# Altium footprint library DF40HC(4.0)-50DS.PcbLib: 1 footprints
Each footprint in its own frame and in the unit in brackets; x right, y up, seen from the top. Pads: shape width x height; smd on the part's side, far side on the other; paste and mask are expansions set on the pad; w line width, h text height; cw(c..) or ccw(c..) is an arc to the next point about the centre after c.
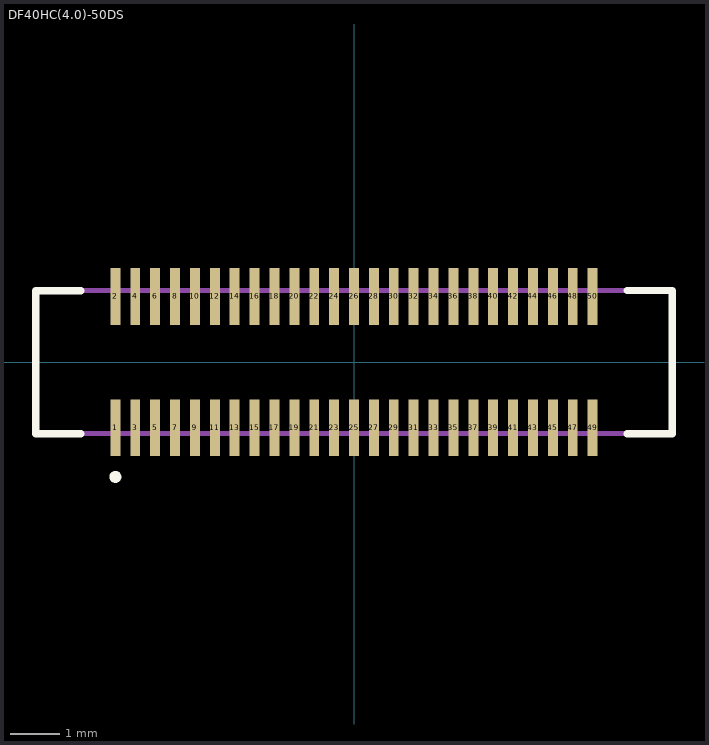
[diagram p0: the footprint, top view; thin cyan lines are the x and y axes]

## DF40HC(4.0)-50DS [mm]
pads (50):
  rect 0.2x1.14 smd: 1(-4.8,-1.32) 2(-4.8,1.32) 3(-4.4,-1.32) 4(-4.4,1.32) 5(-4,-1.32) 6(-4,1.32) 7(-3.6,-1.32) 8(-3.6,1.32) 9(-3.2,-1.32) 10(-3.2,1.32) 11(-2.8,-1.32) 12(-2.8,1.32) 13(-2.4,-1.32) 14(-2.4,1.32) 15(-2,-1.32) 16(-2,1.32) 17(-1.6,-1.32) 18(-1.6,1.32) 19(-1.2,-1.32) 20(-1.2,1.32) 21(-0.8,-1.32) 22(-0.8,1.32) 23(-0.4,-1.32) 24(-0.4,1.32) 25(0,-1.32) 26(0,1.32) 27(0.4,-1.32) 28(0.4,1.32) 29(0.8,-1.32) 30(0.8,1.32) 31(1.2,-1.32) 32(1.2,1.32) 33(1.6,-1.32) 34(1.6,1.32) 35(2,-1.32) 36(2,1.32) 37(2.4,-1.32) 38(2.4,1.32) 39(2.8,-1.32) 40(2.8,1.32) 41(3.2,-1.32) 42(3.2,1.32) 43(3.6,-1.32) 44(3.6,1.32) 45(4,-1.32) 46(4,1.32) 47(4.4,-1.32) 48(4.4,1.32) 49(4.8,-1.32) 50(4.8,1.32)
Top Overlay:
  circle w0.12: c-4.8,-2.31 r0.06
  lines w0.15: -5.5,-1.44 -6.4,-1.44 -6.4,1.438 -5.5,1.438 ; 5.5,-1.438 6.4,-1.438 6.4,1.44 5.5,1.44
Assembly Top:
  lines w0.1: -5.501,1.44 5.501,1.44 ; -5.499,-1.44 5.499,-1.44
3D body "df40hc_4_0_-50ds-0_4v_51_.stp": height 3.9, standoff 0, extent -6.315,-1.69 6.285,1.69